# Altium footprint library TPD4E001DRLR.PcbLib: 1 footprints
Each footprint in its own frame and in the unit in brackets; x right, y up, seen from the top. Pads: shape width x height; smd on the part's side, far side on the other; paste and mask are expansions set on the pad; w line width, h text height; cw(c..) or ccw(c..) is an arc to the next point about the centre after c.
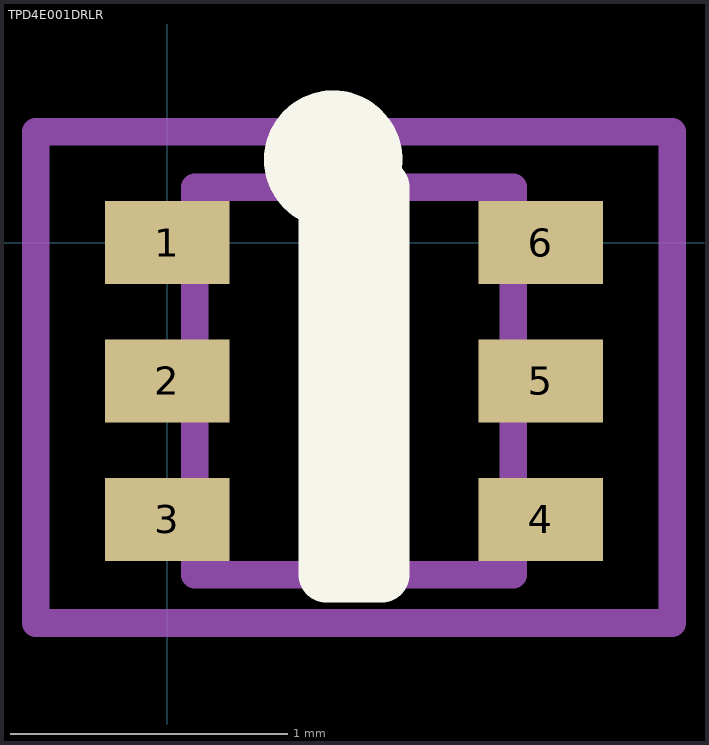
[diagram p0: the footprint, top view; thin cyan lines are the x and y axes]

## TPD4E001DRLR [mm] "TEXAS INSTRUMENTS - TPD4E001DRLR - DIODE, TVS"
height 0.6
pads (6):
  rect 0.45x0.3 smd: 1(0,0) 2(0,-0.5) 3(0,-1) 4(1.35,-1) 5(1.35,-0.5) 6(1.35,0)
Top Overlay:
  circle w0.25: c0.6,0.3 r0.125
  lines w0.2: 0.575,-1.2 0.575,0.2 0.775,0.2 0.775,-1.2 0.575,-1.2
Mechanical 13:
  lines w0.1: 0.1,-1.2 1.25,-1.2 1.25,0.2 0.1,0.2 0.1,-1.2
Mechanical 15:
  lines w0.1: -0.475,-1.375 1.825,-1.375 1.825,0.4 -0.475,0.4 -0.475,-1.375
3D body: height 0.6, standoff 0.01, extent 0.1,-1.2 1.25,0.225